# Altium schematic symbol library VLS3010CX-100M-1.SchLib: 1 symbol
Pins are listed as number, name and electrical type; pins without a type are passive.

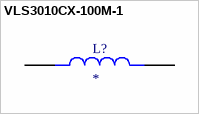
[diagram p0: symbol VLS3010CX-100M-1]

## VLS3010CX-100M-1
designator L?
MF: {'manufacturer': u'TDK Corporation'}; MP: VLS3010CX-100M-1; Package: None; Price: None; Availability: Unavailable; Value: *
footprint IND_VLS3010CX-100M-1
pins: 1, 2